# EAGLE library part OLED0.66 (library SparkFun-Displays)
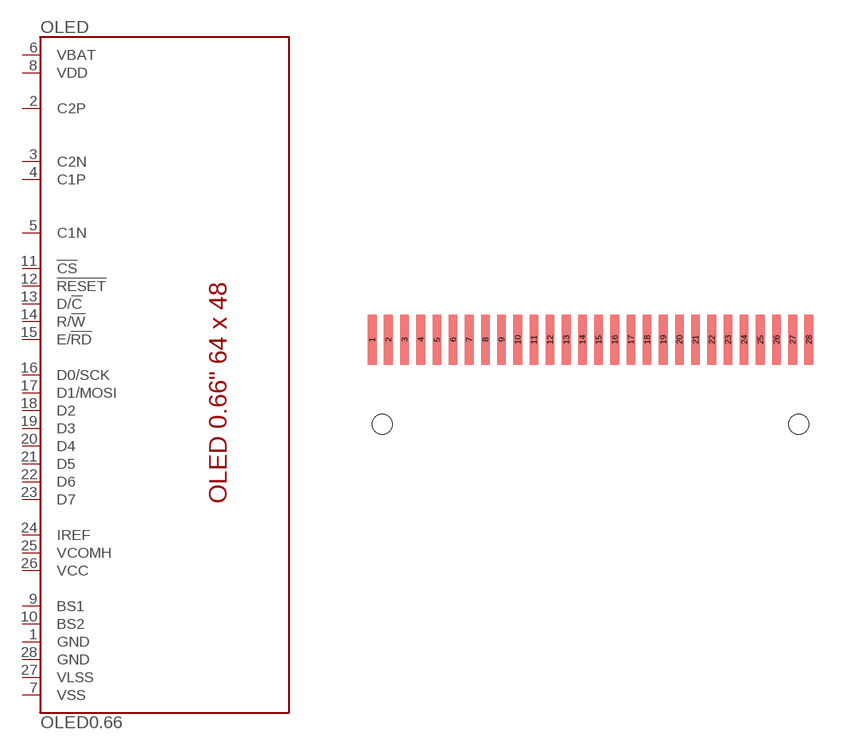
[diagram p10: symbol with the pads of OLED-0.66-64X48; footprint OLED-0.66-64X48]

Designator prefix OLED

## OLED0.66  [OLED-0.66-64X48]
1  GND
2  C2P
3  C2N
4  C1P
5  C1N
6  VBAT
7  VSS
8  VDD
9  BS1
10  BS2
11  !CS!
12  !RESET!
13  D/!C!
14  R/!W!
15  E/!RD!
16  D0/SCK
17  D1/MOSI
18  D2
19  D3
20  D4
21  D5
22  D6
23  D7
24  IREF
25  VCOMH
26  VCC
27  VLSS
28  GND

## Footprint OLED-0.66-64X48 (pad centres in mm)
smd 0.35 x 2: 1 0,0; 2 0.65,0; 3 1.3,0; 4 1.95,0; 5 2.6,0; 6 3.25,0; 7 3.9,0; 8 4.55,0; 9 5.2,0; 10 5.85,0; 11 6.5,0; 12 7.15,0; 13 7.8,0; 14 8.45,0; 15 9.1,0; 16 9.75,0; 17 10.4,0; 18 11.05,0; 19 11.7,0; 20 12.35,0; 21 13,0; 22 13.65,0; 23 14.3,0; 24 14.95,0; 25 15.6,0; 26 16.25,0; 27 16.9,0; 28 17.55,0
hole 0.8 at 17.15,-3.4
hole 0.8 at 0.4,-3.4